# Altium integrated library BY-IOM-v0.2.IntLib: 135 symbols
Pins are listed as number, name and electrical type; pins without a type are passive.

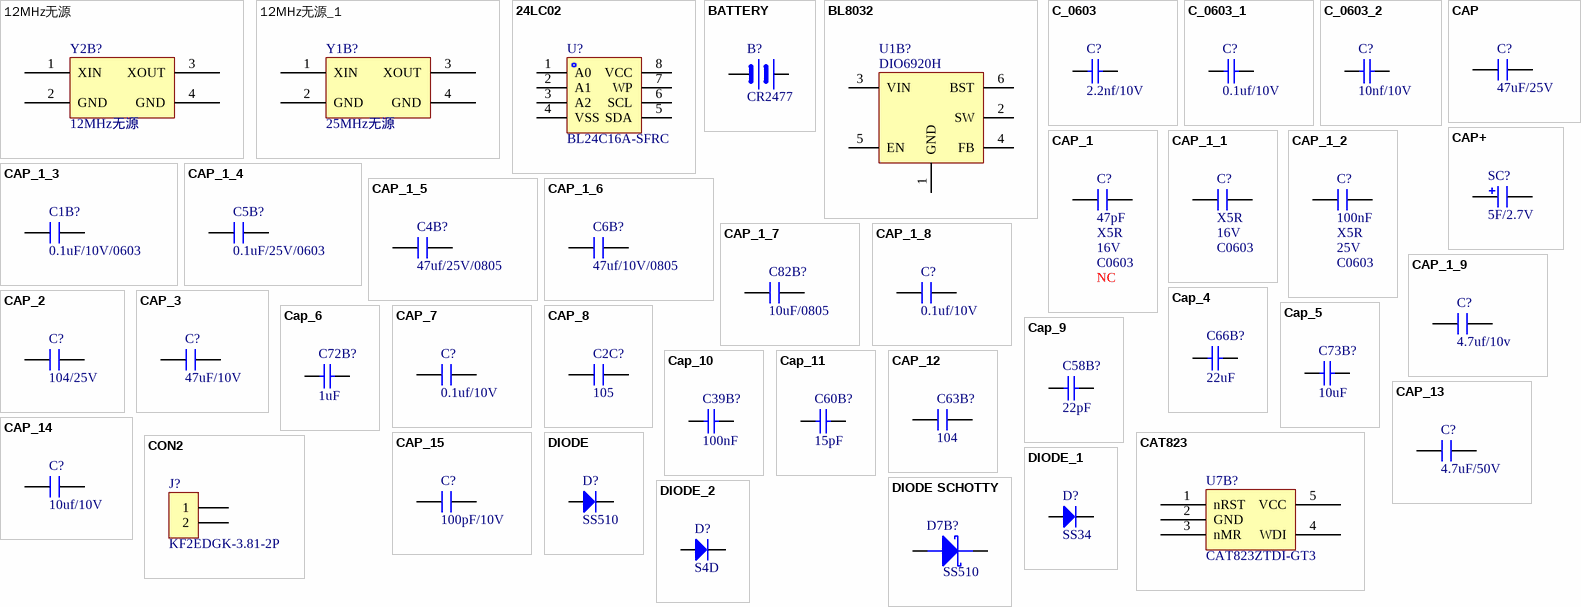
[diagram p0: symbols 12MHz无源 to DIODE_2]

## 12MHz无源
designator Y2B?
footprint 3225
pins: 1 XIN, 2 GND, 3 XOUT, 4 GND

## 12MHz无源_1
designator Y1B?, comment 25MHz无源
footprint 3225
pins: 1 XIN, 2 GND, 3 XOUT, 4 GND

## 24LC02
designator U?, comment BL24C16A-SFRC
footprint TSSOP8
pins: 1 A0, 2 A1, 3 A2, 4 VSS, 5 SDA, 6 SCL, 7 WP, 8 VCC

## BATTERY
designator B?, comment CR2477
footprint CR2032
footprint XH1.25-2p
pins: 1, 2

## BL8032
designator U1B?, comment DIO6920H
footprint SOT-23-6DBV
pins: 1 GND, 2 SW, 3 VIN, 4 FB, 5 EN, 6 BST

## C_0603
designator C?, comment 2.2nf/10V
Published: 8-Jun-2000; LatestRevisionDate: 17-Jul-2002; LatestRevisionNote: Re-released for DXP Platform.; PackageReference: RAD-0.3; Publisher: Altium Limited; PackageDescription: Radial Cap, Thru-Hole; 2 Leads; 0.3 in Pin Spacing
footprint C_0603
footprint 0603C
footprint 0603R
pins: 1, 2

## C_0603_1
designator C?, comment 0.1uf/10V
Published: 8-Jun-2000; LatestRevisionDate: 17-Jul-2002; LatestRevisionNote: Re-released for DXP Platform.; PackageReference: RAD-0.3; Publisher: Altium Limited; PackageDescription: Radial Cap, Thru-Hole; 2 Leads; 0.3 in Pin Spacing
footprint C_0603
footprint 0603C
footprint 0603R
pins: 1, 2

## C_0603_2
designator C?, comment 10nf/10V
Published: 8-Jun-2000; LatestRevisionDate: 17-Jul-2002; LatestRevisionNote: Re-released for DXP Platform.; PackageReference: RAD-0.3; Publisher: Altium Limited; PackageDescription: Radial Cap, Thru-Hole; 2 Leads; 0.3 in Pin Spacing
footprint C_0603
footprint 0603C
footprint 0603R
pins: 1, 2

## CAP
designator C?, comment 47uF/25V
footprint 0805C
footprint 0603R
footprint 0805C
footprint 0603R
footprint 0805R
pins: 1, 2

## CAP+
designator SC?, comment 5F/2.7V
footprint SuperCap-10*20
footprint 2.7V/25F
pins: 1, 2

## CAP_1
designator C?, comment 47pF
footprint 0805C
footprint 0603R
footprint 0805C
footprint 0603C
footprint 0603C
footprint 0402
footprint 0603C
pins: 1, 2
text: X5R; 16V; C0603; NC

## CAP_1_1
designator C?, comment 47pF/16V/0603  (value not drawn)
footprint 0805C
footprint 0603R
footprint 0805C
footprint 0603C
footprint 0603C
footprint 0402
footprint 0603C
pins: 1, 2
text: X5R; 16V; C0603

## CAP_1_2
designator C?, comment 100nF
footprint 0805C
footprint 0603R
footprint 0805C
footprint 0603C
footprint 0603C
footprint 0402
footprint 0603C
pins: 1, 2
text: X5R; 25V; C0603

## CAP_1_3
designator C1B?, comment 0.1uF/10V/0603
footprint 0805C
footprint 0603R
footprint 0805C
footprint 0603C
footprint 0603R
pins: 1, 2

## CAP_1_4
designator C5B?, comment 0.1uF/25V/0603
footprint 0805C
footprint 0603R
footprint 0805C
footprint 0603C
footprint 0603R
pins: 1, 2

## CAP_1_5
designator C4B?, comment 47uf/25V/0805
footprint 0805C
footprint 0603R
footprint 0805C
footprint 0603C
footprint 0805C
footprint 0805R
pins: 1, 2

## CAP_1_6
designator C6B?, comment 47uf/10V/0805
footprint 0805C
footprint 0603R
footprint 0805C
footprint 0603C
footprint 0805C
footprint 0805R
pins: 1, 2

## CAP_1_7
designator C82B?, comment 10uF/0805
footprint 0805C
footprint 0603R
footprint 0805C
footprint 1206
footprint 0603LED
footprint 0805C
footprint 0805R
pins: 1, 2

## CAP_1_8
designator C?, comment 0.1uf/10V
footprint 0805C
footprint 0603R
footprint 0805R
footprint 0603C
pins: 1, 2

## CAP_1_9
designator C?, comment 4.7uf/10v
footprint 0805C
footprint 0603R
footprint 0805C
footprint 0603C
footprint 0402
footprint 0603C
pins: 1, 2

## CAP_2
designator C?, comment 104/25V
footprint 0805C
footprint 0603R
footprint 0805C
footprint 0603R
footprint 0805R
pins: 1, 2

## CAP_3
designator C?, comment 47uF/10V
footprint 0805C
footprint 0603R
footprint 0805C
footprint 0603R
footprint 0805R
pins: 1, 2

## Cap_4
designator C66B?, comment value 22uF  (hidden comment: Cap)
Capacitor; Published: 8-Jun-2000; LatestRevisionDate: 17-Jul-2002; LatestRevisionNote: Re-released for DXP Platform.; PackageReference: RAD-0.3; Publisher: Altium Limited; PackageDescription: Radial Cap, Thru-Hole; 2 Leads; 0.3 in Pin Spacing
footprint RAD-0.3 (Radial Cap, Thru-Hole; 2 Leads; 0.3 in Pin Spacing)
simulation model CAP (Capacitor)
signal-integrity model Cap
footprint C0603
footprint 0603R
pins: 1, 2

## Cap_5
designator C73B?, comment value 10uF  (hidden comment: Cap)
Capacitor; Published: 8-Jun-2000; LatestRevisionDate: 17-Jul-2002; LatestRevisionNote: Re-released for DXP Platform.; PackageReference: RAD-0.3; Publisher: Altium Limited; PackageDescription: Radial Cap, Thru-Hole; 2 Leads; 0.3 in Pin Spacing
footprint RAD-0.3 (Radial Cap, Thru-Hole; 2 Leads; 0.3 in Pin Spacing)
simulation model CAP (Capacitor)
signal-integrity model Cap
footprint C0603
footprint 0603R
pins: 1, 2

## Cap_6
designator C72B?, comment value 1uF  (hidden comment: Cap)
Capacitor; Published: 8-Jun-2000; LatestRevisionDate: 17-Jul-2002; LatestRevisionNote: Re-released for DXP Platform.; PackageReference: RAD-0.3; Publisher: Altium Limited; PackageDescription: Radial Cap, Thru-Hole; 2 Leads; 0.3 in Pin Spacing
footprint RAD-0.3 (Radial Cap, Thru-Hole; 2 Leads; 0.3 in Pin Spacing)
simulation model CAP (Capacitor)
signal-integrity model Cap
footprint C0603
footprint 0603R
pins: 1, 2

## CAP_7
designator C?, comment 0.1uf/10V
footprint 0805C
footprint 0603R
footprint 1210
footprint 0603R
footprint 0603C
pins: 1, 2

## CAP_8
designator C2C?, comment 105
footprint 0805C
footprint 0603R
footprint 1210
footprint 0603R
pins: 1, 2

## Cap_9
designator C58B?, comment value 22pF  (hidden comment: Cap)
Capacitor; Published: 8-Jun-2000; LatestRevisionDate: 17-Jul-2002; LatestRevisionNote: Re-released for DXP Platform.; PackageReference: RAD-0.3; Publisher: Altium Limited; PackageDescription: Radial Cap, Thru-Hole; 2 Leads; 0.3 in Pin Spacing
footprint RAD-0.3 (Radial Cap, Thru-Hole; 2 Leads; 0.3 in Pin Spacing)
simulation model CAP (Capacitor)
signal-integrity model Cap
footprint C0402
footprint 0603R
pins: 1, 2

## Cap_10
designator C39B?, comment value 100nF  (hidden comment: Cap)
Capacitor; Published: 8-Jun-2000; LatestRevisionDate: 17-Jul-2002; LatestRevisionNote: Re-released for DXP Platform.; PackageReference: RAD-0.3; Publisher: Altium Limited; PackageDescription: Radial Cap, Thru-Hole; 2 Leads; 0.3 in Pin Spacing
footprint RAD-0.3 (Radial Cap, Thru-Hole; 2 Leads; 0.3 in Pin Spacing)
simulation model CAP (Capacitor)
signal-integrity model Cap
footprint C0402
footprint 0603R
pins: 1, 2

## Cap_11
designator C60B?, comment value 15pF  (hidden comment: Cap)
Capacitor; Published: 8-Jun-2000; LatestRevisionDate: 17-Jul-2002; LatestRevisionNote: Re-released for DXP Platform.; PackageReference: RAD-0.3; Publisher: Altium Limited; PackageDescription: Radial Cap, Thru-Hole; 2 Leads; 0.3 in Pin Spacing
footprint RAD-0.3 (Radial Cap, Thru-Hole; 2 Leads; 0.3 in Pin Spacing)
simulation model CAP (Capacitor)
signal-integrity model Cap
footprint C0402
footprint 0603R
pins: 1, 2

## CAP_12
designator C63B?, comment 104
footprint 0805C
footprint 0603R
footprint 0603R
pins: 1, 2

## CAP_13
designator C?, comment 4.7uF/50V
footprint 1206
footprint 0603R
pins: 1, 2

## CAP_14
designator C?, comment 10uf/10V
footprint 0805C
footprint 0603R
footprint 0805C
footprint 0603R
footprint 0402
footprint 0603C
pins: 1, 2

## CAP_15
designator C?, comment 100pF/10V
footprint 0805C
footprint 0603R
footprint 0805R
footprint 0805C
footprint 0603C
pins: 1, 2

## CAT823
designator U7B?, comment CAT823ZTDI-GT3
footprint SOT-23-5
pins: 1 nRST, 2 GND, 3 nMR, 4 WDI, 5 VCC

## CON2
designator J?, comment KF2EDGK-3.81-2P
footprint CON2B
footprint CON2-150
footprint KF2EDG-5.08-2P
footprint KF-5.08-2P-Z
footprint KF-5.08-2P-Z
footprint CON2-150
footprint KF2EDGK-3.81-2P
pins: 1, 2

## DIODE
designator D?, comment SS510
footprint 1206D
footprint DO-214AC
footprint DO-214AC
pins: 1 K, 2 A

## DIODE SCHOTTY
designator D7B?, comment SS510
footprint DO-214AC
pins: 1 K, 2 A

## DIODE_1
designator D?, comment SS34
footprint DO-214AC
pins: 1 K, 2 A

## DIODE_2
designator D?, comment S4D
footprint DO-214AC
footprint DO-214AB
pins: 1 K, 2 A

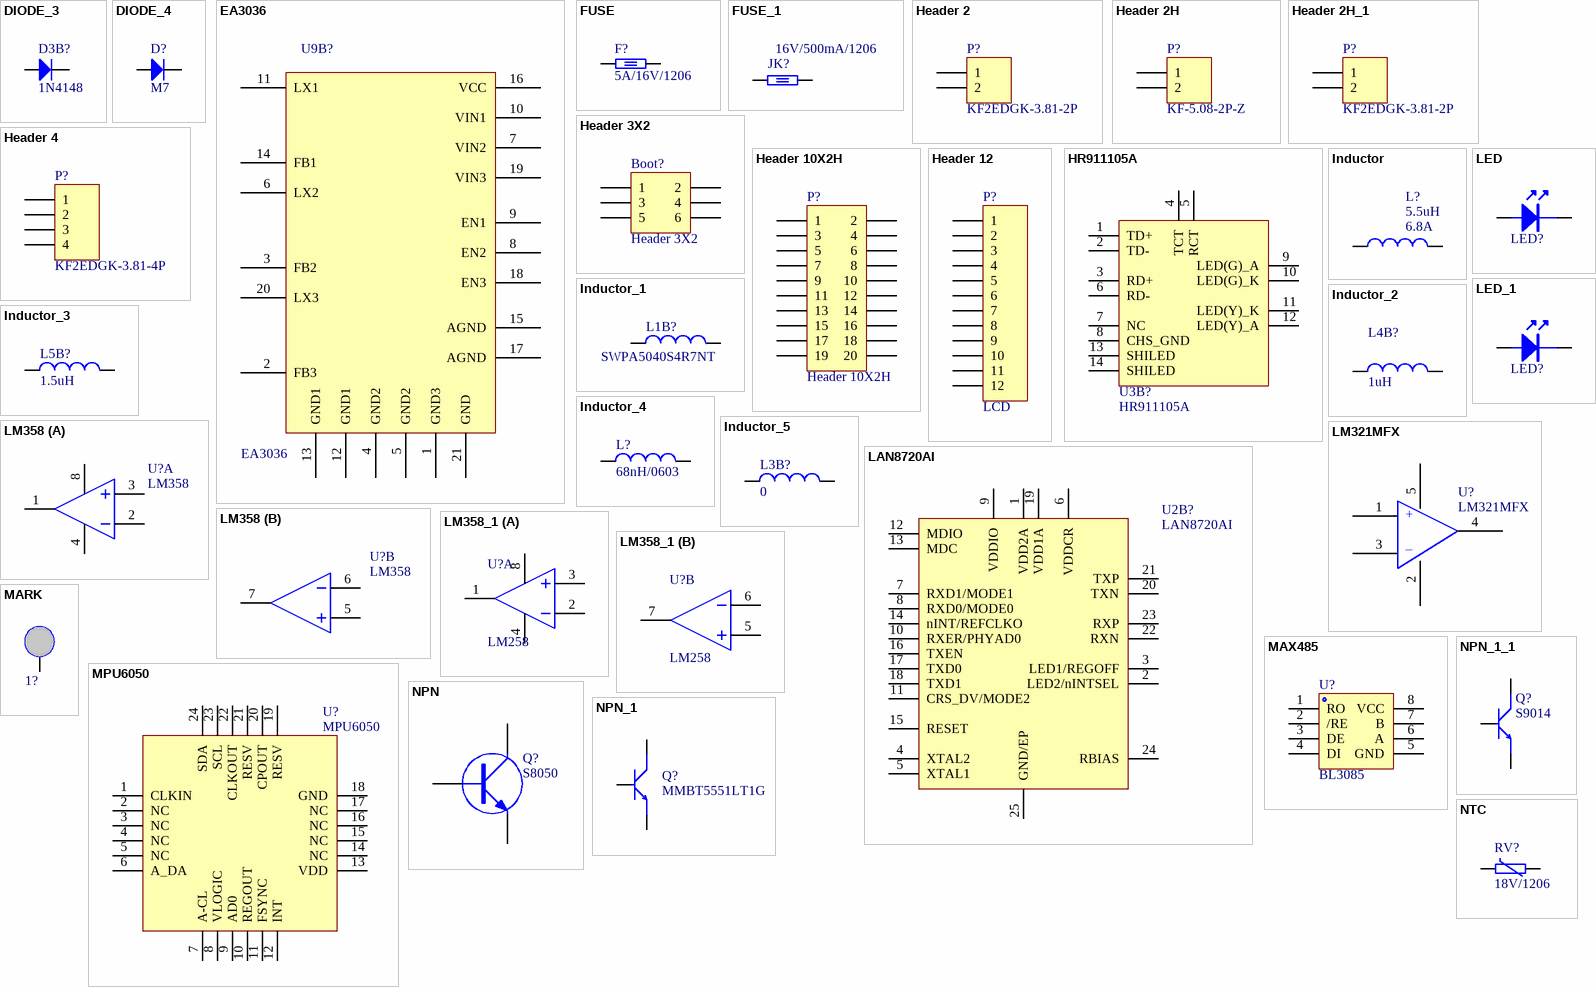
[diagram p1: symbols DIODE_3 to NTC]

## DIODE_3
designator D3B?, comment 1N4148
footprint 1206D
footprint SOD-123
footprint 1206
footprint 1206D
footprint SOD123
footprint 1206D
pins: 1 K, 2 A

## DIODE_4
designator D?, comment M7
footprint 1206D
footprint DO-214AC
footprint DO-214AC
pins: 1 K, 2 A

## EA3036
designator U9B?
footprint QFN-20N (QFN, 20-Leads, Body 3.20x3.20mm, Pitch 0.40mm, Thermal Pad 1.60x1.60mm, IPC Medium Density)
pins: 1 GND3, 2 FB3, 3 FB2, 4 GND2, 5 GND2, 6 LX2, 7 VIN2, 8 EN2, 9 EN1, 10 VIN1, 11 LX1, 12 GND1, 13 GND1, 14 FB1, 15 AGND, 16 VCC, 17 AGND, 18 EN3, 19 VIN3, 20 LX3, 21 GND

## FUSE
designator F?, comment 5A/16V/1206
footprint 1812
footprint 5X20 保险丝座
footprint T16A250V
footprint 1206
pins: 1, 2

## FUSE_1
designator JK?, comment 16V/500mA/1206
footprint 1812
footprint 1206
pins: 1, 2

## Header 2
designator P?, comment KF2EDGK-3.81-2P
Header, 2-Pin; LatestRevisionDate: 17-Jul-2002; LatestRevisionNote: Re-released for DXP Platform.; Publisher: Altium Limited
footprint HDR1X2 (Connector; Header; 2 Position)
signal-integrity model Connector
footprint KF2EDGK-3.81-2P
footprint KF2EDGK-3.81-2P
pins: 1, 2

## Header 2H
designator P?, comment KF-5.08-2P-Z
Header, 2-Pin, Right Angle; LatestRevisionDate: 17-Jul-2002; LatestRevisionNote: Re-released for DXP Platform.; Publisher: Altium Limited
footprint HDR1X2H (Connector; Header; 2 Position; Right Angle)
signal-integrity model Connector
footprint KF-5.08-2P-Z
footprint XK2EDG-7.62-2P
footprint KF-5.08-2P-Z
pins: 1, 2

## Header 2H_1
designator P?, comment KF2EDGK-3.81-2P
Header, 2-Pin, Right Angle; LatestRevisionDate: 17-Jul-2002; LatestRevisionNote: Re-released for DXP Platform.; Publisher: Altium Limited
footprint HDR1X2H (Connector; Header; 2 Position; Right Angle)
signal-integrity model Connector
footprint KF-5.08-2P-Z
footprint XK2EDG-7.62-2P
footprint KF2EDGK-3.81-2P
pins: 1, 2

## Header 3X2
designator Boot?
Header, 3-Pin, Dual row; LatestRevisionDate: 17-Jul-2002; LatestRevisionNote: Re-released for DXP Platform.; Publisher: Altium Limited
footprint HDR2X3 (Connector; Header; 3x2 Position)
signal-integrity model Connector
footprint 拨码开关直插3P
pins: 1, 2, 3, 4, 5, 6

## Header 4
designator P?, comment KF2EDGK-3.81-4P
Header, 4-Pin; LatestRevisionDate: 17-Jul-2002; LatestRevisionNote: Re-released for DXP Platform.; Publisher: Altium Limited
footprint HDR1X4 (Connector; Header; 4 Position)
signal-integrity model Connector
footprint KF2EDGK-3.81-4P
pins: 1, 2, 3, 4

## Header 10X2H
designator P?
Header, 10-Pin, Dual row, Right Angle; LatestRevisionDate: 17-Jul-2002; LatestRevisionNote: Re-released for DXP Platform.; Publisher: Altium Limited
footprint HDR2X10H (Connector; Header; 10x2 Position; Right Angle)
signal-integrity model Connector
footprint CON20-254
pins: 1, 2, 3, 4, 5, 6, 7, 8, 9, 10, 11, 12, 13, 14, 15, 16, 17, 18, 19, 20

## Header 12
designator P?, comment LCD
Header, 12-Pin; LatestRevisionDate: 17-Jul-2002; LatestRevisionNote: Re-released for DXP Platform.; Publisher: Altium Limited
footprint HDR1X12 (Connector; Header; 12 Position)
signal-integrity model Connector
footprint XH2.54-12P
pins: 1, 2, 3, 4, 5, 6, 7, 8, 9, 10, 11, 12

## HR911105A
designator U3B?
footprint RJ45
pins: 1 TD+, 2 TD-, 3 RD+, 4 TCT, 5 RCT, 6 RD-, 7 NC, 8 CHS_GND, 9 LED(G)_A, 10 LED(G)_K, 11 LED(Y)_K, 12 LED(Y)_A, 13 SHILED, 14 SHILED

## Inductor
designator L?, comment 5.5uH/10*10/6.8A  (value not drawn)
Inductor
footprint 0402-A (Chip Inductor, Body 1.0x0.5mm, IPC High Density)
footprint INDC1608L (Chip Inductor, Body 1.6x0.8mm, IPC High Density)
footprint 2029 (Chip Inductor, Body 2.0x1.2mm, IPC High Density)
footprint 0603 (Chip Inductor, Body 0.6x0.3mm, IPC High Density)
footprint INDC3216 (Chip Inductor, Body 3.2x1.6mm, IPC High Density)
footprint INDC4532 (Chip Inductor, Body 4.5x3.2mm, IPC High Density)
simulation model INDUCTOR (Inductor)
signal-integrity model Inductor
footprint 68uH/2A
footprint Model Name (Footprint not found)
footprint 68uH/2A
footprint CD54
footprint CD54
footprint 47uH/10*10/2A
pins: 1, 2
text: 5.5uH; 6.8A

## Inductor_1
designator L1B?, comment SWPA5040S4R7NT
Inductor; Code_IEC: 1005; Published: 8-Jun-2000; LatestRevisionDate: 29-May-2009; LatestRevisionNote: IPC-7351 Footprint Added.; PackageReference: 0402-A; Publisher: Altium Limited; PackageDescription: Chip Inductor; Code_JEITA: 0402
footprint 0402-A (Chip Inductor, Body 1.0x0.5mm, IPC High Density)
footprint INDC1608L (Chip Inductor, Body 1.6x0.8mm, IPC High Density)
footprint 2029 (Chip Inductor, Body 2.0x1.2mm, IPC High Density)
footprint 0603 (Chip Inductor, Body 0.6x0.3mm, IPC High Density)
footprint INDC3216 (Chip Inductor, Body 3.2x1.6mm, IPC High Density)
footprint INDC4532 (Chip Inductor, Body 4.5x3.2mm, IPC High Density)
simulation model INDUCTOR (Inductor)
signal-integrity model Inductor
footprint 68uH/2A
footprint Model Name (Footprint not found)
footprint 68uH/2A
footprint CD54
footprint CD54
pins: 1, 2

## Inductor_2
designator L4B?, comment value 1uH  (hidden comment: Inductor)
Code_IEC: 1005; Published: 8-Jun-2000; LatestRevisionDate: 29-May-2009; LatestRevisionNote: IPC-7351 Footprint Added.; PackageReference: 0402-A; Publisher: Altium Limited; PackageDescription: Chip Inductor; Code_JEITA: 0402
footprint CKCD3D28 (Precision Wire Wound Inductor, 2-Leads, Body 3.80x3.80mm, IPC Medium Density)
footprint INDC1608L (Chip Inductor, Body 1.6x0.8mm, IPC High Density)
footprint 2029 (Chip Inductor, Body 2.0x1.2mm, IPC High Density)
footprint 0603 (Chip Inductor, Body 0.6x0.3mm, IPC High Density)
footprint INDC3216 (Chip Inductor, Body 3.2x1.6mm, IPC High Density)
footprint INDC4532 (Chip Inductor, Body 4.5x3.2mm, IPC High Density)
simulation model INDUCTOR (Inductor)
signal-integrity model Inductor
pins: 1, 2

## Inductor_3
designator L5B?, comment value 1.5uH  (hidden comment: Inductor)
Code_IEC: 1005; Published: 8-Jun-2000; LatestRevisionDate: 29-May-2009; LatestRevisionNote: IPC-7351 Footprint Added.; PackageReference: 0402-A; Publisher: Altium Limited; PackageDescription: Chip Inductor; Code_JEITA: 0402
footprint CKCD3D28 (Precision Wire Wound Inductor, 2-Leads, Body 3.80x3.80mm, IPC Medium Density)
footprint INDC1608L (Chip Inductor, Body 1.6x0.8mm, IPC High Density)
footprint 2029 (Chip Inductor, Body 2.0x1.2mm, IPC High Density)
footprint 0603 (Chip Inductor, Body 0.6x0.3mm, IPC High Density)
footprint INDC3216 (Chip Inductor, Body 3.2x1.6mm, IPC High Density)
footprint INDC4532 (Chip Inductor, Body 4.5x3.2mm, IPC High Density)
simulation model INDUCTOR (Inductor)
signal-integrity model Inductor
pins: 1, 2

## Inductor_4
designator L?, comment 68nH/0603
Inductor
footprint 0402-A (Chip Inductor, Body 1.0x0.5mm, IPC High Density)
footprint INDC1608L (Chip Inductor, Body 1.6x0.8mm, IPC High Density)
footprint 2029 (Chip Inductor, Body 2.0x1.2mm, IPC High Density)
footprint 0603 (Chip Inductor, Body 0.6x0.3mm, IPC High Density)
footprint INDC3216 (Chip Inductor, Body 3.2x1.6mm, IPC High Density)
footprint INDC4532 (Chip Inductor, Body 4.5x3.2mm, IPC High Density)
simulation model INDUCTOR (Inductor)
signal-integrity model Inductor
footprint 68uH/2A
footprint Model Name (Footprint not found)
footprint 68uH/2A
footprint CD54
footprint CD54
footprint 0603R
pins: 1, 2

## Inductor_5
designator L3B?, comment value 0  (hidden comment: Inductor)
Code_IEC: 1005; Published: 8-Jun-2000; LatestRevisionDate: 29-May-2009; LatestRevisionNote: IPC-7351 Footprint Added.; PackageReference: 0402-A; Publisher: Altium Limited; PackageDescription: Chip Inductor; Code_JEITA: 0402
footprint R0603 (Chip Capacitor, 2-Leads, Body 1.60x0.80mm, IPC Medium Density)
footprint INDC1608L (Chip Inductor, Body 1.6x0.8mm, IPC High Density)
footprint 2029 (Chip Inductor, Body 2.0x1.2mm, IPC High Density)
footprint 0603 (Chip Inductor, Body 0.6x0.3mm, IPC High Density)
footprint INDC3216 (Chip Inductor, Body 3.2x1.6mm, IPC High Density)
footprint INDC4532 (Chip Inductor, Body 4.5x3.2mm, IPC High Density)
simulation model INDUCTOR (Inductor)
signal-integrity model Inductor
footprint 0603R
pins: 1, 2

## LAN8720AI
designator U2B?
footprint QFN24
pins: 1 VDD2A, 2 LED2/nINTSEL, 3 LED1/REGOFF, 4 XTAL2, 5 XTAL1, 6 VDDCR, 7 RXD1/MODE1, 8 RXD0/MODE0, 9 VDDIO, 10 RXER/PHYAD0, 11 CRS_DV/MODE2, 12 MDIO, 13 MDC, 14 nINT/REFCLKO, 15 RESET, 16 TXEN, 17 TXD0, 18 TXD1, 19 VDD1A, 20 TXN, 21 TXP, 22 RXN, 23 RXP, 24 RBIAS, 25 GND/EP

## LED
designator LED?  (value not drawn)
footprint 0603LED
footprint LED
footprint 0805led
footprint 0805LED
pins: 1, 2

## LED_1
designator LED?, comment LED/蓝色  (value not drawn)
footprint 0603LED
footprint LED
footprint 0805led
footprint 0805LED
pins: 1, 2

## LM321MFX
designator U?
footprint SOT-23-5
pins: 1, 2, 3, 4, 5
text: +; _

## LM358
designator U?
footprint SO8
part A pins: 1, 2, 3, 4, 8
part B pins: 5, 6, 7

## LM358_1
designator U?, comment LM258
footprint SO8
part A pins: 1, 2, 3, 4, 8
part B pins: 5, 6, 7

## MARK
designator 1?  (value not drawn)
footprint MARK
pins: 1

## MAX485
designator U?, comment BL3085
footprint SO8
pins: 1 RO, 2 /RE, 3 DE, 4 DI, 5 GND, 6 A, 7 B, 8 VCC

## MPU6050
designator U?
footprint QFN-24_4x4x05P
pins: 1 CLKIN, 2 NC, 3 NC, 4 NC, 5 NC, 6 A_DA, 7 A-CL, 8 VLOGIC, 9 AD0, 10 REGOUT, 11 FSYNC, 12 INT, 13 VDD, 14 NC, 15 NC, 16 NC, 17 NC, 18 GND, 19 RESV, 20 CPOUT, 21 RESV, 22 CLKOUT, 23 SCL, 24 SDA

## NPN
designator Q?, comment S8050
footprint SOT-23
pins: 1 B, 2 E, 3 C

## NPN_1
designator Q?, comment MMBT5551LT1G
footprint SOT-23
pins: 1 B, 2 E, 3 C

## NPN_1_1
designator Q?, comment S9014
footprint SOT-23
pins: 1 B, 2 E, 3 C

## NTC
designator RV?, comment 18V/1206
footprint 1206
pins: 1, 2

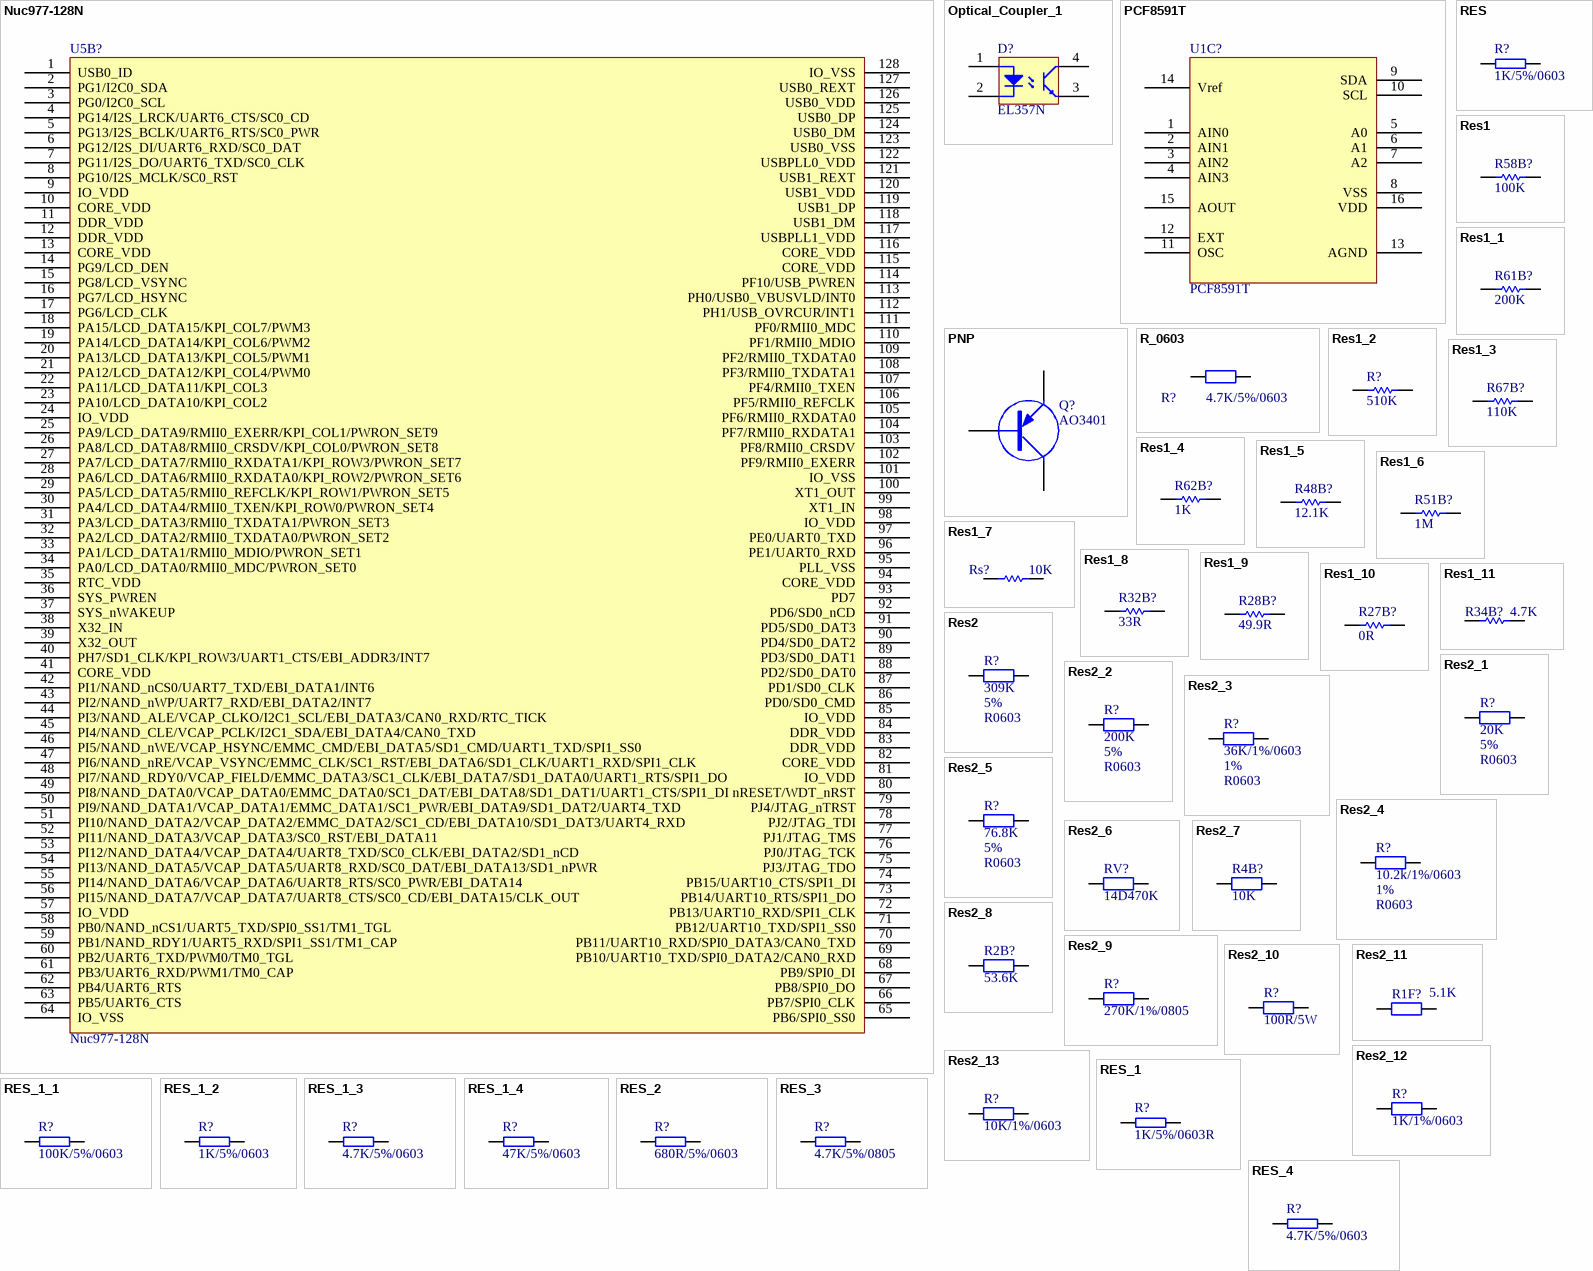
[diagram p2: symbols Nuc977-128N to RES_4]

## Nuc977-128N
designator U5B?
footprint LQFP-128N-0_4 (SQFP, 128-Leads, Body 14.00x14.00mm, Pitch 0.40mm, IPC Medium Density)
pins: 1 USB0_ID, 2 PG1/I2C0_SDA, 3 PG0/I2C0_SCL, 4 PG14/I2S_LRCK/UART6_CTS/SC0_CD, 5 PG13/I2S_BCLK/UART6_RTS/SC0_PWR, 6 PG12/I2S_DI/UART6_RXD/SC0_DAT, 7 PG11/I2S_DO/UART6_TXD/SC0_CLK, 8 PG10/I2S_MCLK/SC0_RST, 9 IO_VDD, 10 CORE_VDD, 11 DDR_VDD, 12 DDR_VDD, 13 CORE_VDD, 14 PG9/LCD_DEN, 15 PG8/LCD_VSYNC, 16 PG7/LCD_HSYNC, 17 PG6/LCD_CLK, 18 PA15/LCD_DATA15/KPI_COL7/PWM3, 19 PA14/LCD_DATA14/KPI_COL6/PWM2, 20 PA13/LCD_DATA13/KPI_COL5/PWM1, 21 PA12/LCD_DATA12/KPI_COL4/PWM0, 22 PA11/LCD_DATA11/KPI_COL3, 23 PA10/LCD_DATA10/KPI_COL2, 24 IO_VDD, 25 PA9/LCD_DATA9/RMII0_EXERR/KPI_COL1/PWRON_SET9, 26 PA8/LCD_DATA8/RMII0_CRSDV/KPI_COL0/PWRON_SET8, 27 PA7/LCD_DATA7/RMII0_RXDATA1/KPI_ROW3/PWRON_SET7, 28 PA6/LCD_DATA6/RMII0_RXDATA0/KPI_ROW2/PWRON_SET6, 29 PA5/LCD_DATA5/RMII0_REFCLK/KPI_ROW1/PWRON_SET5, 30 PA4/LCD_DATA4/RMII0_TXEN/KPI_ROW0/PWRON_SET4, 31 PA3/LCD_DATA3/RMII0_TXDATA1/PWRON_SET3, 32 PA2/LCD_DATA2/RMII0_TXDATA0/PWRON_SET2, 33 PA1/LCD_DATA1/RMII0_MDIO/PWRON_SET1, 34 PA0/LCD_DATA0/RMII0_MDC/PWRON_SET0, 35 RTC_VDD, 36 SYS_PWREN, 37 SYS_nWAKEUP, 38 X32_IN, 39 X32_OUT, 40 PH7/SD1_CLK/KPI_ROW3/UART1_CTS/EBI_ADDR3/INT7, 41 CORE_VDD, 42 PI1/NAND_nCS0/UART7_TXD/EBI_DATA1/INT6, 43 PI2/NAND_nWP/UART7_RXD/EBI_DATA2/INT7, 44 PI3/NAND_ALE/VCAP_CLKO/I2C1_SCL/EBI_DATA3/CAN0_RXD/RTC_TICK, 45 PI4/NAND_CLE/VCAP_PCLK/I2C1_SDA/EBI_DATA4/CAN0_TXD, 46 PI5/NAND_nWE/VCAP_HSYNC/EMMC_CMD/EBI_DATA5/SD1_CMD/UART1_TXD/SPI1_SS0, 47 PI6/NAND_nRE/VCAP_VSYNC/EMMC_CLK/SC1_RST/EBI_DATA6/SD1_CLK/UART1_RXD/SPI1_CLK, 48 PI7/NAND_RDY0/VCAP_FIELD/EMMC_DATA3/SC1_CLK/EBI_DATA7/SD1_DATA0/UART1_RTS/SPI1_DO, 49 PI8/NAND_DATA0/VCAP_DATA0/EMMC_DATA0/SC1_DAT/EBI_DATA8/SD1_DAT1/UART1_CTS/SPI1_DI, 50 PI9/NAND_DATA1/VCAP_DATA1/EMMC_DATA1/SC1_PWR/EBI_DATA9/SD1_DAT2/UART4_TXD, 51 PI10/NAND_DATA2/VCAP_DATA2/EMMC_DATA2/SC1_CD/EBI_DATA10/SD1_DAT3/UART4_RXD, 52 PI11/NAND_DATA3/VCAP_DATA3/SC0_RST/EBI_DATA11, 53 PI12/NAND_DATA4/VCAP_DATA4/UART8_TXD/SC0_CLK/EBI_DATA2/SD1_nCD, 54 PI13/NAND_DATA5/VCAP_DATA5/UART8_RXD/SC0_DAT/EBI_DATA13/SD1_nPWR, 55 PI14/NAND_DATA6/VCAP_DATA6/UART8_RTS/SC0_PWR/EBI_DATA14, 56 PI15/NAND_DATA7/VCAP_DATA7/UART8_CTS/SC0_CD/EBI_DATA15/CLK_OUT, 57 IO_VDD, 58 PB0/NAND_nCS1/UART5_TXD/SPI0_SS1/TM1_TGL, 59 PB1/NAND_RDY1/UART5_RXD/SPI1_SS1/TM1_CAP, 60 PB2/UART6_TXD/PWM0/TM0_TGL, 61 PB3/UART6_RXD/PWM1/TM0_CAP, 62 PB4/UART6_RTS, 63 PB5/UART6_CTS, 64 IO_VSS, 65 PB6/SPI0_SS0, 66 PB7/SPI0_CLK, 67 PB8/SPI0_DO, 68 PB9/SPI0_DI, 69 PB10/UART10_TXD/SPI0_DATA2/CAN0_RXD, 70 PB11/UART10_RXD/SPI0_DATA3/CAN0_TXD, 71 PB12/UART10_TXD/SPI1_SS0, 72 PB13/UART10_RXD/SPI1_CLK, 73 PB14/UART10_RTS/SPI1_DO, 74 PB15/UART10_CTS/SPI1_DI, 75 PJ3/JTAG_TDO, 76 PJ0/JTAG_TCK, 77 PJ1/JTAG_TMS, 78 PJ2/JTAG_TDI, 79 PJ4/JTAG_nTRST, 80 nRESET/WDT_nRST, 81 IO_VDD, 82 CORE_VDD, 83 DDR_VDD, 84 DDR_VDD, 85 IO_VDD, 86 PD0/SD0_CMD, 87 PD1/SD0_CLK, 88 PD2/SD0_DAT0, 89 PD3/SD0_DAT1, 90 PD4/SD0_DAT2, 91 PD5/SD0_DAT3, 92 PD6/SD0_nCD, 93 PD7, 94 CORE_VDD, 95 PLL_VSS, 96 PE1/UART0_RXD, 97 PE0/UART0_TXD, 98 IO_VDD, 99 XT1_IN, 100 XT1_OUT, 101 IO_VSS, 102 PF9/RMII0_EXERR, 103 PF8/RMII0_CRSDV, 104 PF7/RMII0_RXDATA1, 105 PF6/RMII0_RXDATA0, 106 PF5/RMII0_REFCLK, 107 PF4/RMII0_TXEN, 108 PF3/RMII0_TXDATA1, 109 PF2/RMII0_TXDATA0, 110 PF1/RMII0_MDIO, 111 PF0/RMII0_MDC, 112 PH1/USB_OVRCUR/INT1, 113 PH0/USB0_VBUSVLD/INT0, 114 PF10/USB_PWREN, 115 CORE_VDD, 116 CORE_VDD, 117 USBPLL1_VDD, 118 USB1_DM, 119 USB1_DP, 120 USB1_VDD, 121 USB1_REXT, 122 USBPLL0_VDD, 123 USB0_VSS, 124 USB0_DM, 125 USB0_DP, 126 USB0_VDD, 127 USB0_REXT, 128 IO_VSS

## Optical_Coupler_1
designator D?, comment EL357N
footprint EL816
footprint EL357
pins: 1 A, 2 K, 3 E, 4 C

## PCF8591T
designator U1C?
footprint SO16
footprint SOIC-16
pins: 1 AIN0, 2 AIN1, 3 AIN2, 4 AIN3, 5 A0, 6 A1, 7 A2, 8 VSS, 9 SDA, 10 SCL, 11 OSC, 12 EXT, 13 AGND, 14 Vref, 15 AOUT, 16 VDD

## PNP
designator Q?, comment AO3401
footprint SOT-23
pins: 1 B, 2 E, 3 C

## R_0603
designator R?, comment 4.7K/5%/0603
Published: 8-Jun-2000; LatestRevisionDate: 17-Jul-2002; LatestRevisionNote: Re-released for DXP Platform.; PackageReference: AXIAL-0.4; Publisher: Altium Limited; PackageDescription: Axial Device, Thru-Hole; 2 Leads; 0.4 in Pin Spacing
footprint R_0603
footprint 0603R (Footprint not found)
footprint 0603R
pins: 1, 2

## RES
designator R?, comment 1K/5%/0603
footprint 0603R
footprint 0603r
footprint 0805R
footprint 0603R
pins: 1, 2

## Res1
designator R58B?  value 100K  (hidden comment: Res1)
Resistor; Published: 8-Jun-2000; LatestRevisionDate: 17-Jul-2002; LatestRevisionNote: Re-released for DXP Platform.; PackageReference: AXIAL-0.3; Publisher: Altium Limited; PackageDescription: Axial Device, Thru-Hole; 2 Leads; 0.3 in Pin Spacing
footprint AXIAL-0.3 (Axial Device, Thru-Hole; 2 Leads; 0.3 in Pin Spacing)
simulation model RESISTOR (Resistor)
signal-integrity model Res
footprint R0402
footprint 0603R
pins: 1, 2

## Res1_1
designator R61B?, comment value 200K  (hidden comment: Res1)
Resistor; Published: 8-Jun-2000; LatestRevisionDate: 17-Jul-2002; LatestRevisionNote: Re-released for DXP Platform.; PackageReference: AXIAL-0.3; Publisher: Altium Limited; PackageDescription: Axial Device, Thru-Hole; 2 Leads; 0.3 in Pin Spacing
footprint AXIAL-0.3 (Axial Device, Thru-Hole; 2 Leads; 0.3 in Pin Spacing)
simulation model RESISTOR (Resistor)
signal-integrity model Res
footprint R0402
footprint 0603R
pins: 1, 2

## Res1_2
designator R?, comment value 510K  (hidden comment: Res1)
Resistor; Published: 8-Jun-2000; LatestRevisionDate: 17-Jul-2002; LatestRevisionNote: Re-released for DXP Platform.; PackageReference: AXIAL-0.3; Publisher: Altium Limited; PackageDescription: Axial Device, Thru-Hole; 2 Leads; 0.3 in Pin Spacing
footprint AXIAL-0.3 (Axial Device, Thru-Hole; 2 Leads; 0.3 in Pin Spacing)
simulation model RESISTOR (Resistor)
signal-integrity model Res
footprint R0402
footprint 0603R
pins: 1, 2

## Res1_3
designator R67B?, comment value 110K  (hidden comment: Res1)
Resistor; Published: 8-Jun-2000; LatestRevisionDate: 17-Jul-2002; LatestRevisionNote: Re-released for DXP Platform.; PackageReference: AXIAL-0.3; Publisher: Altium Limited; PackageDescription: Axial Device, Thru-Hole; 2 Leads; 0.3 in Pin Spacing
footprint AXIAL-0.3 (Axial Device, Thru-Hole; 2 Leads; 0.3 in Pin Spacing)
simulation model RESISTOR (Resistor)
signal-integrity model Res
footprint R0402
footprint 0603R
pins: 1, 2

## Res1_4
designator R62B?, comment value 1K  (hidden comment: Res1)
Resistor; Published: 8-Jun-2000; LatestRevisionDate: 17-Jul-2002; LatestRevisionNote: Re-released for DXP Platform.; PackageReference: AXIAL-0.3; Publisher: Altium Limited; PackageDescription: Axial Device, Thru-Hole; 2 Leads; 0.3 in Pin Spacing
footprint AXIAL-0.3 (Axial Device, Thru-Hole; 2 Leads; 0.3 in Pin Spacing)
simulation model RESISTOR (Resistor)
signal-integrity model Res
footprint R0402
footprint 0603R
pins: 1, 2

## Res1_5
designator R48B?, comment value 12.1K  (hidden comment: Res1)
Resistor; Published: 8-Jun-2000; LatestRevisionDate: 17-Jul-2002; LatestRevisionNote: Re-released for DXP Platform.; PackageReference: AXIAL-0.3; Publisher: Altium Limited; PackageDescription: Axial Device, Thru-Hole; 2 Leads; 0.3 in Pin Spacing
footprint AXIAL-0.3 (Axial Device, Thru-Hole; 2 Leads; 0.3 in Pin Spacing)
simulation model RESISTOR (Resistor)
signal-integrity model Res
footprint R0402
footprint 0603R
pins: 1, 2

## Res1_6
designator R51B?, comment value 1M  (hidden comment: Res1)
Resistor; Published: 8-Jun-2000; LatestRevisionDate: 17-Jul-2002; LatestRevisionNote: Re-released for DXP Platform.; PackageReference: AXIAL-0.3; Publisher: Altium Limited; PackageDescription: Axial Device, Thru-Hole; 2 Leads; 0.3 in Pin Spacing
footprint AXIAL-0.3 (Axial Device, Thru-Hole; 2 Leads; 0.3 in Pin Spacing)
simulation model RESISTOR (Resistor)
signal-integrity model Res
footprint R0402
footprint 0603R
pins: 1, 2

## Res1_7
designator Rs?, comment value 10K  (hidden comment: Res1)
Resistor; Published: 8-Jun-2000; LatestRevisionDate: 17-Jul-2002; LatestRevisionNote: Re-released for DXP Platform.; PackageReference: AXIAL-0.3; Publisher: Altium Limited; PackageDescription: Axial Device, Thru-Hole; 2 Leads; 0.3 in Pin Spacing
footprint AXIAL-0.3 (Axial Device, Thru-Hole; 2 Leads; 0.3 in Pin Spacing)
simulation model RESISTOR (Resistor)
signal-integrity model Res
footprint R0402
footprint 0603R
pins: 1, 2

## Res1_8
designator R32B?, comment value 33R  (hidden comment: Res1)
Resistor; Published: 8-Jun-2000; LatestRevisionDate: 17-Jul-2002; LatestRevisionNote: Re-released for DXP Platform.; PackageReference: AXIAL-0.3; Publisher: Altium Limited; PackageDescription: Axial Device, Thru-Hole; 2 Leads; 0.3 in Pin Spacing
footprint AXIAL-0.3 (Axial Device, Thru-Hole; 2 Leads; 0.3 in Pin Spacing)
simulation model RESISTOR (Resistor)
signal-integrity model Res
footprint R0402
footprint 0603R
pins: 1, 2

## Res1_9
designator R28B?, comment value 49.9R  (hidden comment: Res1)
Resistor; Published: 8-Jun-2000; LatestRevisionDate: 17-Jul-2002; LatestRevisionNote: Re-released for DXP Platform.; PackageReference: AXIAL-0.3; Publisher: Altium Limited; PackageDescription: Axial Device, Thru-Hole; 2 Leads; 0.3 in Pin Spacing
footprint AXIAL-0.3 (Axial Device, Thru-Hole; 2 Leads; 0.3 in Pin Spacing)
simulation model RESISTOR (Resistor)
signal-integrity model Res
footprint R0402
footprint 0603R
pins: 1, 2

## Res1_10
designator R27B?, comment value 0R  (hidden comment: Res1)
Resistor; Published: 8-Jun-2000; LatestRevisionDate: 17-Jul-2002; LatestRevisionNote: Re-released for DXP Platform.; PackageReference: AXIAL-0.3; Publisher: Altium Limited; PackageDescription: Axial Device, Thru-Hole; 2 Leads; 0.3 in Pin Spacing
footprint AXIAL-0.3 (Axial Device, Thru-Hole; 2 Leads; 0.3 in Pin Spacing)
simulation model RESISTOR (Resistor)
signal-integrity model Res
footprint R0402
footprint 0603R
pins: 1, 2

## Res1_11
designator R34B?, comment value 4.7K  (hidden comment: Res1)
Resistor; Published: 8-Jun-2000; LatestRevisionDate: 17-Jul-2002; LatestRevisionNote: Re-released for DXP Platform.; PackageReference: AXIAL-0.3; Publisher: Altium Limited; PackageDescription: Axial Device, Thru-Hole; 2 Leads; 0.3 in Pin Spacing
footprint AXIAL-0.3 (Axial Device, Thru-Hole; 2 Leads; 0.3 in Pin Spacing)
simulation model RESISTOR (Resistor)
signal-integrity model Res
footprint R0402
footprint 0603R
pins: 1, 2

## Res2
designator R?, comment 309K
Resistor
footprint AXIAL-0.4 (Axial Device, Thru-Hole; 2 Leads; 0.4 in Pin Spacing)
simulation model RESISTOR (Resistor)
signal-integrity model Res
footprint 0603R
footprint 0805R
footprint 0603R
footprint 0402
footprint 0603R
pins: 1, 2
text: 5%; R0603

## Res2_1
designator R?, comment 20K
Resistor
footprint AXIAL-0.4 (Axial Device, Thru-Hole; 2 Leads; 0.4 in Pin Spacing)
simulation model RESISTOR (Resistor)
signal-integrity model Res
footprint 0603R
footprint 0805R
footprint 0603R
footprint 0402
footprint 0603R
pins: 1, 2
text: 5%; R0603

## Res2_2
designator R?, comment 200K
Resistor
footprint AXIAL-0.4 (Axial Device, Thru-Hole; 2 Leads; 0.4 in Pin Spacing)
simulation model RESISTOR (Resistor)
signal-integrity model Res
footprint 0603R
footprint 0805R
footprint 0603R
footprint 0402
footprint 0603R
pins: 1, 2
text: 5%; R0603

## Res2_3
designator R?, comment 36K/1%/0603
Resistor
footprint AXIAL-0.4 (Axial Device, Thru-Hole; 2 Leads; 0.4 in Pin Spacing)
simulation model RESISTOR (Resistor)
signal-integrity model Res
footprint 0603R
footprint 0805R
footprint 0603R
footprint 0402
footprint 0603R
pins: 1, 2
text: 1%; R0603

## Res2_4
designator R?, comment 10.2k/1%/0603
Resistor
footprint AXIAL-0.4 (Axial Device, Thru-Hole; 2 Leads; 0.4 in Pin Spacing)
simulation model RESISTOR (Resistor)
signal-integrity model Res
footprint 0603R
footprint 0805R
footprint 0603R
footprint 0402
footprint 0603R
pins: 1, 2
text: 1%; R0603

## Res2_5
designator R?, comment 76.8K
Resistor
footprint AXIAL-0.4 (Axial Device, Thru-Hole; 2 Leads; 0.4 in Pin Spacing)
simulation model RESISTOR (Resistor)
signal-integrity model Res
footprint 0603R
footprint 0805R
footprint 0603R
footprint 0402
footprint 0603R
pins: 1, 2
text: 5%; R0603

## Res2_6
designator RV?, comment 14D470K
Resistor; Published: 8-Jun-2000; LatestRevisionDate: 17-Jul-2002; LatestRevisionNote: Re-released for DXP Platform.; PackageReference: AXIAL-0.4; Publisher: Altium Limited; PackageDescription: Axial Device, Thru-Hole; 2 Leads; 0.4 in Pin Spacing
footprint AXIAL-0.4 (Axial Device, Thru-Hole; 2 Leads; 0.4 in Pin Spacing)
simulation model RESISTOR (Resistor)
signal-integrity model Res
footprint 0805R
footprint MOV14 (Footprint not found)
footprint 0805R
footprint MOV14D
pins: 1, 2

## Res2_7
designator R4B?, comment 10K
Resistor; Published: 8-Jun-2000; LatestRevisionDate: 17-Jul-2002; LatestRevisionNote: Re-released for DXP Platform.; PackageReference: AXIAL-0.4; Publisher: Altium Limited; PackageDescription: Axial Device, Thru-Hole; 2 Leads; 0.4 in Pin Spacing
footprint AXIAL-0.4 (Axial Device, Thru-Hole; 2 Leads; 0.4 in Pin Spacing)
simulation model RESISTOR (Resistor)
signal-integrity model Res
footprint 0603R
footprint 0805R
footprint 0603R
pins: 1, 2

## Res2_8
designator R2B?, comment 53.6K
Resistor; Published: 8-Jun-2000; LatestRevisionDate: 17-Jul-2002; LatestRevisionNote: Re-released for DXP Platform.; PackageReference: AXIAL-0.4; Publisher: Altium Limited; PackageDescription: Axial Device, Thru-Hole; 2 Leads; 0.4 in Pin Spacing
footprint AXIAL-0.4 (Axial Device, Thru-Hole; 2 Leads; 0.4 in Pin Spacing)
simulation model RESISTOR (Resistor)
signal-integrity model Res
footprint 0603R
footprint 0805R
footprint 0603R
pins: 1, 2

## Res2_9
designator R?, comment 270K/1%/0805
Resistor; Published: 8-Jun-2000; LatestRevisionDate: 17-Jul-2002; LatestRevisionNote: Re-released for DXP Platform.; PackageReference: AXIAL-0.4; Publisher: Altium Limited; PackageDescription: Axial Device, Thru-Hole; 2 Leads; 0.4 in Pin Spacing
footprint AXIAL-0.4 (Axial Device, Thru-Hole; 2 Leads; 0.4 in Pin Spacing)
simulation model RESISTOR (Resistor)
signal-integrity model Res
footprint 0603r
footprint 1206
footprint 0805R
pins: 1, 2

## Res2_10
designator R?, comment 100R/5W
Resistor; Published: 8-Jun-2000; LatestRevisionDate: 17-Jul-2002; LatestRevisionNote: Re-released for DXP Platform.; PackageReference: AXIAL-0.4; Publisher: Altium Limited; PackageDescription: Axial Device, Thru-Hole; 2 Leads; 0.4 in Pin Spacing
footprint AXIAL-0.4 (Axial Device, Thru-Hole; 2 Leads; 0.4 in Pin Spacing)
simulation model RESISTOR (Resistor)
signal-integrity model Res
footprint 0603r
footprint 1206
footprint 0805R
footprint 1206
footprint 100R/5W/直插
pins: 1, 2

## Res2_11
designator R1F?, comment 5.1K
Resistor; Published: 8-Jun-2000; LatestRevisionDate: 17-Jul-2002; LatestRevisionNote: Re-released for DXP Platform.; PackageReference: AXIAL-0.4; Publisher: Altium Limited; PackageDescription: Axial Device, Thru-Hole; 2 Leads; 0.4 in Pin Spacing
footprint AXIAL-0.4 (Axial Device, Thru-Hole; 2 Leads; 0.4 in Pin Spacing)
simulation model RESISTOR (Resistor)
signal-integrity model Res
footprint 0603R
footprint 0805R
footprint 0603R
pins: 1, 2

## Res2_12
designator R?, comment 1K/1%/0603
Resistor; Published: 8-Jun-2000; LatestRevisionDate: 17-Jul-2002; LatestRevisionNote: Re-released for DXP Platform.; PackageReference: AXIAL-0.4; Publisher: Altium Limited; PackageDescription: Axial Device, Thru-Hole; 2 Leads; 0.4 in Pin Spacing
footprint AXIAL-0.4 (Axial Device, Thru-Hole; 2 Leads; 0.4 in Pin Spacing)
simulation model RESISTOR (Resistor)
signal-integrity model Res
footprint 0603R
footprint 1812
footprint 0805 (Footprint not found)
footprint 0603R
pins: 1, 2

## Res2_13
designator R?, comment 10K/1%/0603
Resistor; Published: 8-Jun-2000; LatestRevisionDate: 17-Jul-2002; LatestRevisionNote: Re-released for DXP Platform.; PackageReference: AXIAL-0.4; Publisher: Altium Limited; PackageDescription: Axial Device, Thru-Hole; 2 Leads; 0.4 in Pin Spacing
footprint AXIAL-0.4 (Axial Device, Thru-Hole; 2 Leads; 0.4 in Pin Spacing)
simulation model RESISTOR (Resistor)
signal-integrity model Res
footprint 0603R
footprint 1812
footprint 0805 (Footprint not found)
footprint 0603R
pins: 1, 2

## RES_1
designator R?, comment 1K/5%/0603R
footprint 0603R
footprint 0805R
footprint CSR0207
footprint 0603R
pins: 1, 2

## RES_1_1
designator R?, comment 100K/5%/0603
footprint 0805R
footprint 0603R
pins: 1, 2

## RES_1_2
designator R?, comment 1K/5%/0603
footprint 0805R
footprint 1206
pins: 1, 2

## RES_1_3
designator R?, comment 4.7K/5%/0603
footprint 0805R
footprint 0603R
pins: 1, 2

## RES_1_4
designator R?, comment 47K/5%/0603
footprint 0805R
footprint 0603R
pins: 1, 2

## RES_2
designator R?, comment 680R/5%/0603
footprint 0805R
footprint 0603R
pins: 1, 2

## RES_3
designator R?, comment 4.7K/5%/0805
footprint 0603R
footprint 0603r
footprint 0805R
footprint 0603R
pins: 1, 2

## RES_4
designator R?, comment 4.7K/5%/0603
footprint 0603R
footprint 0805R (Footprint not found)
footprint 0603R
pins: 1, 2

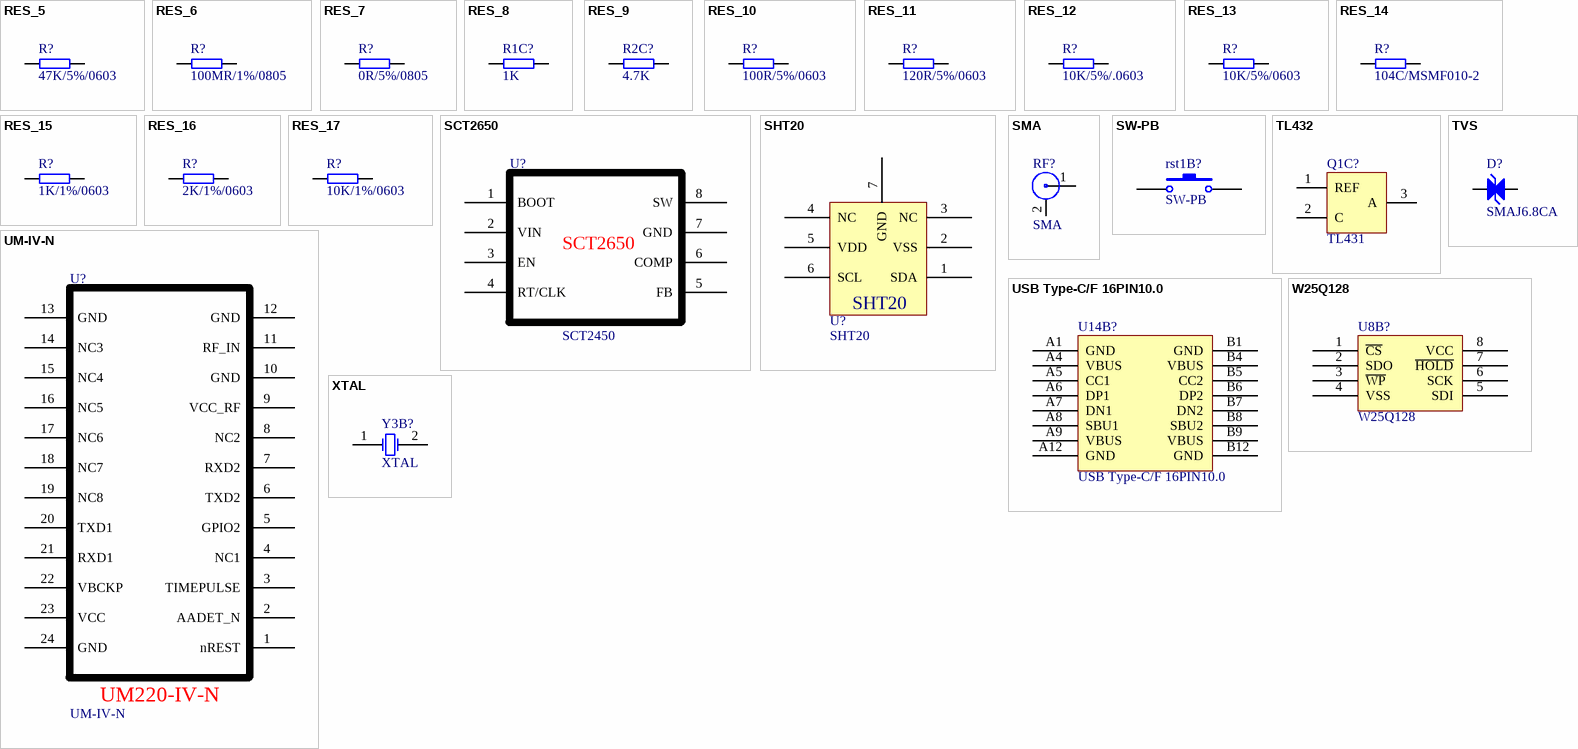
[diagram p3: symbols RES_5 to XTAL]

## RES_5
designator R?, comment 47K/5%/0603
footprint 0603R
footprint 0805r
footprint 0603R
pins: 1, 2

## RES_6
designator R?, comment 100MR/1%/0805
footprint 1206
footprint RS1.0 (Footprint not found)
footprint RS1.0
footprint 0805R
pins: 1, 2

## RES_7
designator R?, comment 0R/5%/0805
footprint 0603R
footprint 0603r
footprint 0805R
pins: 1, 2

## RES_8
designator R1C?, comment 1K
footprint 0603R
footprint 0603r
pins: 1, 2

## RES_9
designator R2C?, comment 4.7K
footprint 0603R
footprint 0603r
pins: 1, 2

## RES_10
designator R?, comment 100R/5%/0603
footprint 0603R
footprint 0603r
footprint 0805R
footprint 0603R
pins: 1, 2

## RES_11
designator R?, comment 120R/5%/0603
footprint 0603R
footprint 0805R
footprint 0805R
footprint 0603R
pins: 1, 2

## RES_12
designator R?, comment 10K/5%/.0603
footprint 0603R
footprint 0805R
footprint 0805R
footprint 0603R
pins: 1, 2

## RES_13
designator R?, comment 10K/5%/0603
footprint 0603R
footprint 0805R
footprint 0805R
footprint 0603R
pins: 1, 2

## RES_14
designator R?, comment 104C/MSMF010-2
footprint 0603R
footprint 1812
pins: 1, 2

## RES_15
designator R?, comment 1K/1%/0603
footprint 0603R
footprint 0603r
footprint 0402
footprint 0603r
pins: 1, 2

## RES_16
designator R?, comment 2K/1%/0603
footprint 0603R
footprint 0603r
footprint 0402
footprint 0603r
pins: 1, 2

## RES_17
designator R?, comment 10K/1%/0603
footprint 0603R
footprint 0603r
footprint 0402
footprint 0603r
pins: 1, 2

## SCT2650
designator U?, comment SCT2450
footprint SO8
pins: 1 BOOT, 2 VIN, 3 EN, 4 RT/CLK, 5 FB, 6 COMP, 7 GND, 8 SW

## SHT20
designator U?
footprint SHT20
pins: 1 SDA, 2 VSS, 3 NC, 4 NC, 5 VDD, 6 SCL, 7 GND

## SMA
designator RF?
footprint RF1-00283天线座
footprint SMA-KWE
pins: 1, 2

## SW-PB
designator rst1B?
Switch; Published: 24-Mar-1999; LatestRevisionDate: 17-Jul-2002; LatestRevisionNote: Re-released for DXP Platform.; PackageReference: SPST-2; Publisher: Altium Limited; PackageDescription: Switch; 2 Leads
footprint SW_3*6
pins: 1, 2

## TL432
designator Q1C?, comment TL431
footprint SOT-23
pins: 1 REF, 2 C, 3 A

## TVS
designator D?, comment SMAJ6.8CA
footprint DO-214AC
pins: 1 K, 2 A

## UM-IV-N
designator U?
footprint UM220-IV NL
pins: 1 nREST, 2 AADET_N, 3 TIMEPULSE, 4 NC1, 5 GPIO2, 6 TXD2, 7 RXD2, 8 NC2, 9 VCC_RF, 10 GND, 11 RF_IN, 12 GND, 13 GND, 14 NC3, 15 NC4, 16 NC5, 17 NC6, 18 NC7, 19 NC8, 20 TXD1, 21 RXD1, 22 VBCKP, 23 VCC, 24 GND
text: UM220-IV-N

## USB Type-C/F 16PIN10.0
designator U14B?
footprint Type-C/F 16PIN10.0立式插板成品
pins: A1 GND, A4 VBUS, A5 CC1, A6 DP1, A7 DN1, A8 SBU1, A9 VBUS, A12 GND, B1 GND, B4 VBUS, B5 CC2, B6 DP2, B7 DN2, B8 SBU2, B9 VBUS, B12 GND

## W25Q128
designator U8B?
footprint SOIC-8N (SOIC, 8-Leads, Body 5.30x5.30mm, Pitch 1.27mm, IPC Medium Density)
pins: 1 ~{CS}, 2 SDO, 3 ~{WP}, 4 VSS, 5 SDI, 6 SCK, 7 ~{HOLD}, 8 VCC

## XTAL
designator Y3B?
Crystal Oscillator; Published: 8-Jun-2000; LatestRevisionDate: 17-Jul-2002; LatestRevisionNote: Re-released for DXP Platform.; PackageReference: R38; Publisher: Altium Limited; PackageDescription: Crystal, Thru-Hole; 2 Leads; Body 3.1 x 8.2 mm (Dia.xH)
footprint MC-146_32.768
simulation model XTAL (Spice Subcircuit)
pins: 1 OSC1, 2 OSC2